# EAGLE library part 74LVC1G157 (library lichtenstein_onion)
Single 2-input multiplexer Datasheet <https://www.mouser.com/datasheet/2/916/74LVC1G157-1319565.pdf>
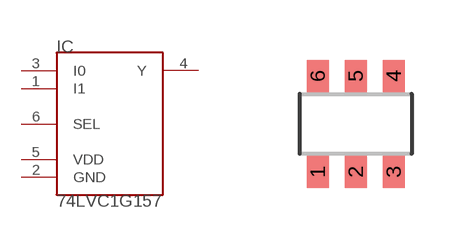
[diagram p23: symbol with the pads of SOT457R_PHILIPS; footprint SOT457R_PHILIPS]

Designator prefix IC

## 74LVC1G157SOT457 (MOUSER: 771-74LVC1G157GV-G)  [SOT457R_PHILIPS]
1  I1  in
2  GND  pwr
3  I0  in
4  Y  out
5  VDD  pwr
6  SEL  in

## Footprint SOT457R_PHILIPS (pad centres in mm)
Small Outline Transistor; 6 leads SOT457 (SC-74) FOOTPRINT (REFLOW SOLDERING) Philips Semiconductors, sot457-(sc-74)-reflow-wave.pdf
smd 0.55 x 0.8: 1 -0.95,-1.2; 2 0,-1.2; 3 0.95,-1.2; 4 0.95,1.2; 5 0,1.2; 6 -0.95,1.2